# EAGLE library part ADA_DOTSTAR_8X8_3444 (library mood-badge-components)
1in x 1in Addressable 8x8 RGB LED Matrix - Adafruit Dotstar (APA102-2020 LED) Matrix 3444 https://www.adafruit.com/product/3444 Do not eat this LED grid just because it is so colorful and bite-sized! This is the tiniest little LED grid we could make, with 64 full RGB color pixels in a square that is only 1" by 1" square (thats 25.4mm x 25.4mm for you metric-lovers). Best of all, these are little DotStar LEDs, with built in PWM drivers, so you only need two digital I/O pins to get a-glowin'. But do not be fooled by their small size, each LED is still incredibly, blindingly bright just like the DotStars/NeoPixels you know and love. These are the same integrated LEDs that are used in our new fancy DotStar strips just really small. Arranged in an 8x8 matrix, each pixel is individually addressable: like NeoPixels, DotStar LEDs have an embedded microcontroller inside the LED. You can set the color/brightness of each LED to 24-bit color (8 bits each red green and blue). Each LED acts like a shift register, reading incoming color data on the input pins, and then shifting the previous color data out on the output pin. By sending a long string of data, you can control an 'infinite' number of LEDs. The PWM is built into each LED-chip so once you set the color you can stop talking to the disk and it will continue to PWM all the LEDs for you. Wiring it up is easy: there are two 4-pad connection ports on the back. Solder wires to the input port (+5V GND ClockIn and DataIn) and provide 5VDC to the +5V and ground pins, then connect the CIN/DIN pin to your microcontroller. If you have hardware SPI, use the SCK and MOSI pins respectively. You'll also need to make a common ground from the 5V power supply to the microcontroller/Arduino. Since each LED can draw as much as 40mA (thats up to 2.5 Amps per panel if all LEDs are on bright white!) we suggest our 5V 2A power supply if you're going to use full brightness and a lot of white. For most uses, you'll see about 0.5A of current per panel, and you can set the brightness to drop that down. Note that so much current through a small board can make it toasty! To keep the board small, we did not put any small surface-mount capacitors on the front. Instead, there's a power/ground pad set on the back and a 220uF capacitor that you can solder onto the back for a compact fit. There's also four mounting holes that you can use for attachment, or snap them off with pliers if you want a perfect 1" square.
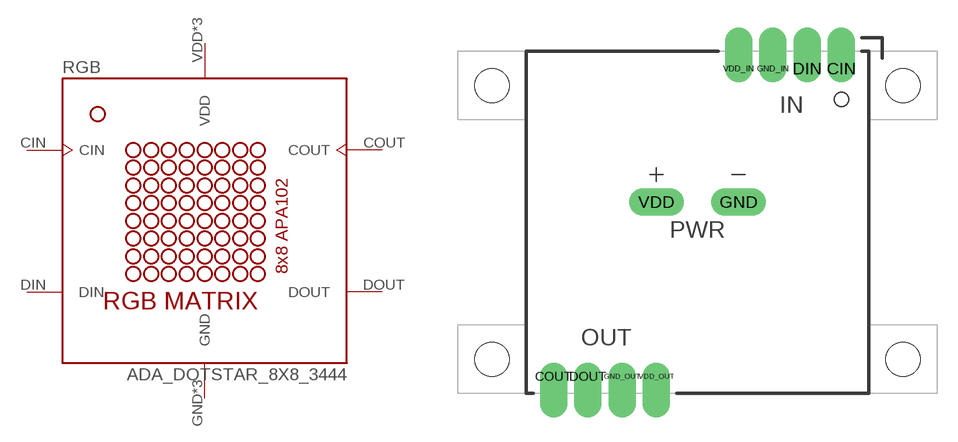
[diagram p0: symbol with the pads of ADA_DOTSTAR_8X8_3444_HOLES; footprint ADA_DOTSTAR_8X8_3444_HOLES]

Designator prefix RGB

## ADA_DOTSTAR_8X8_34448X8_DOTSTAR_3444_HOLES  [ADA_DOTSTAR_8X8_3444_HOLES]
CIN  CIN  in
COUT  COUT  out
DIN  DIN  in
DOUT  DOUT  out
GND  GND  pwr
GND_IN  GND  pwr
GND_OUT  GND  pwr
VDD  VDD  pwr
VDD_IN  VDD  pwr
VDD_OUT  VDD  pwr

## Footprint ADA_DOTSTAR_8X8_3444_HOLES (pad centres in mm)
drill 0.9 pad 2.032 offset: CIN 23.368,24.13; COUT 2.032,1.27; DIN 20.828,24.13; DOUT 4.572,1.27; GND_IN 18.288,24.13; GND_OUT 7.112,1.27; VDD_IN 15.748,24.13; VDD_OUT 9.652,1.27
drill 0.9 pad 2.032 long: GND 15.748,14.224; VDD 9.652,14.224
hole 2.54 at -2.54,22.86
hole 2.54 at 27.94,22.86
hole 2.54 at 27.94,2.54
hole 2.54 at -2.54,2.54